# Altium footprint library Inductors.PcbLib: 1 footprints
Each footprint in its own frame and in the unit in brackets; x right, y up, seen from the top. Pads: shape width x height; smd on the part's side, far side on the other; paste and mask are expansions set on the pad; w line width, h text height; cw(c..) or ccw(c..) is an arc to the next point about the centre after c.
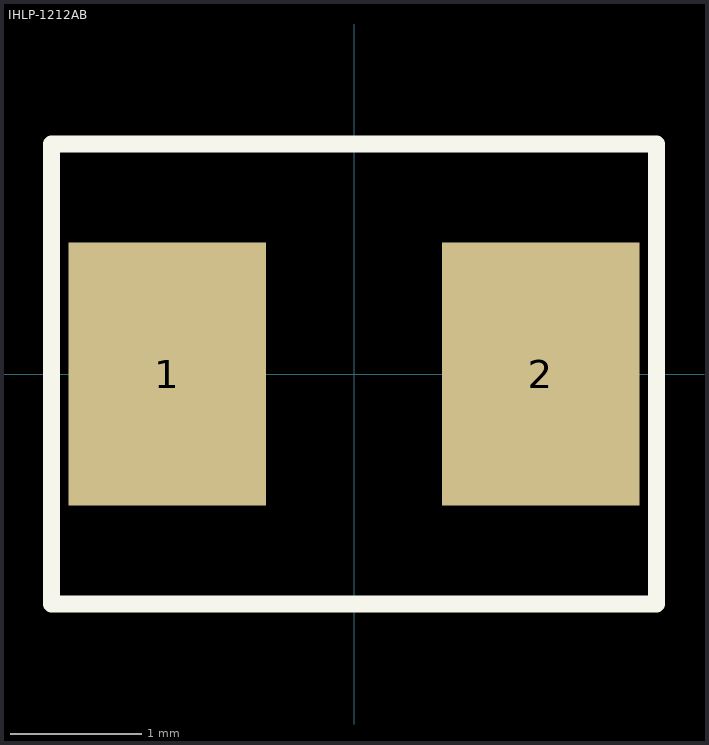
[diagram p0: the footprint, top view; thin cyan lines are the x and y axes]

## IHLP-1212AB [mm]
pads (2):
  rect 1.5x2 smd: 1(-1.42,0) 2(1.42,0)
Top Overlay:
  lines w0.127: -2.3,-1.75 -2.3,1.75 -1.15,1.75 1.15,1.75 2.3,1.75 2.3,-1.75 1.15,-1.75 -1.15,-1.75 -2.3,-1.75